# EAGLE library part DW01 (library BMS)
DW01 - IC/ Battery Protection IC
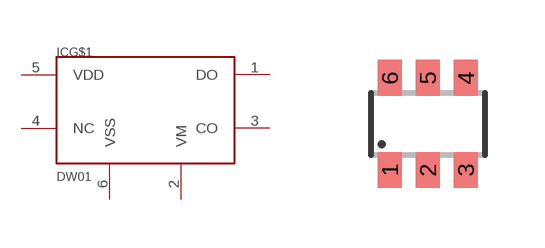
[diagram p0: symbol with the pads of SOT23-6; footprint SOT23-6]

Designator prefix IC; gates G$1=DW01 NC=NC

## DW01 (MF: ETC; MPN: DW01)  [SOT23-6]
1  G$1:DO
2  G$1:VM
3  G$1:CO
4  NC:NC
5  G$1:VDD
6  G$1:VSS

## Footprint SOT23-6 (pad centres in mm)
Small Outline Transistor 6 lead
smd 0.6 x 0.9: 1 -0.95,-1.15; 2 0,-1.15; 3 0.95,-1.15; 4 0.95,1.15; 5 0,1.15; 6 -0.95,1.15